# Altium schematic symbol library PianoSwitch.SchLib: 1 symbol
Pins are listed as number, name and electrical type; pins without a type are passive.

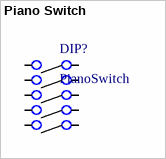
[diagram p0: symbol Piano Switch]

## Piano Switch
designator DIP?, comment PianoSwitch
pins: SW1, SW2, SW2B, SW2C, SW2D, SW2E, SW2F, SW3, SW4, SW5